# Altium footprint library Connector_Samtec_HLE_SMD.PcbLib: 290 footprints (part 1 of 24)
Each footprint in its own frame and in the unit in brackets; x right, y up, seen from the top. Pads: shape width x height; smd on the part's side, far side on the other; paste and mask are expansions set on the pad; w line width, h text height; cw(c..) or ccw(c..) is an arc to the next point about the centre after c.
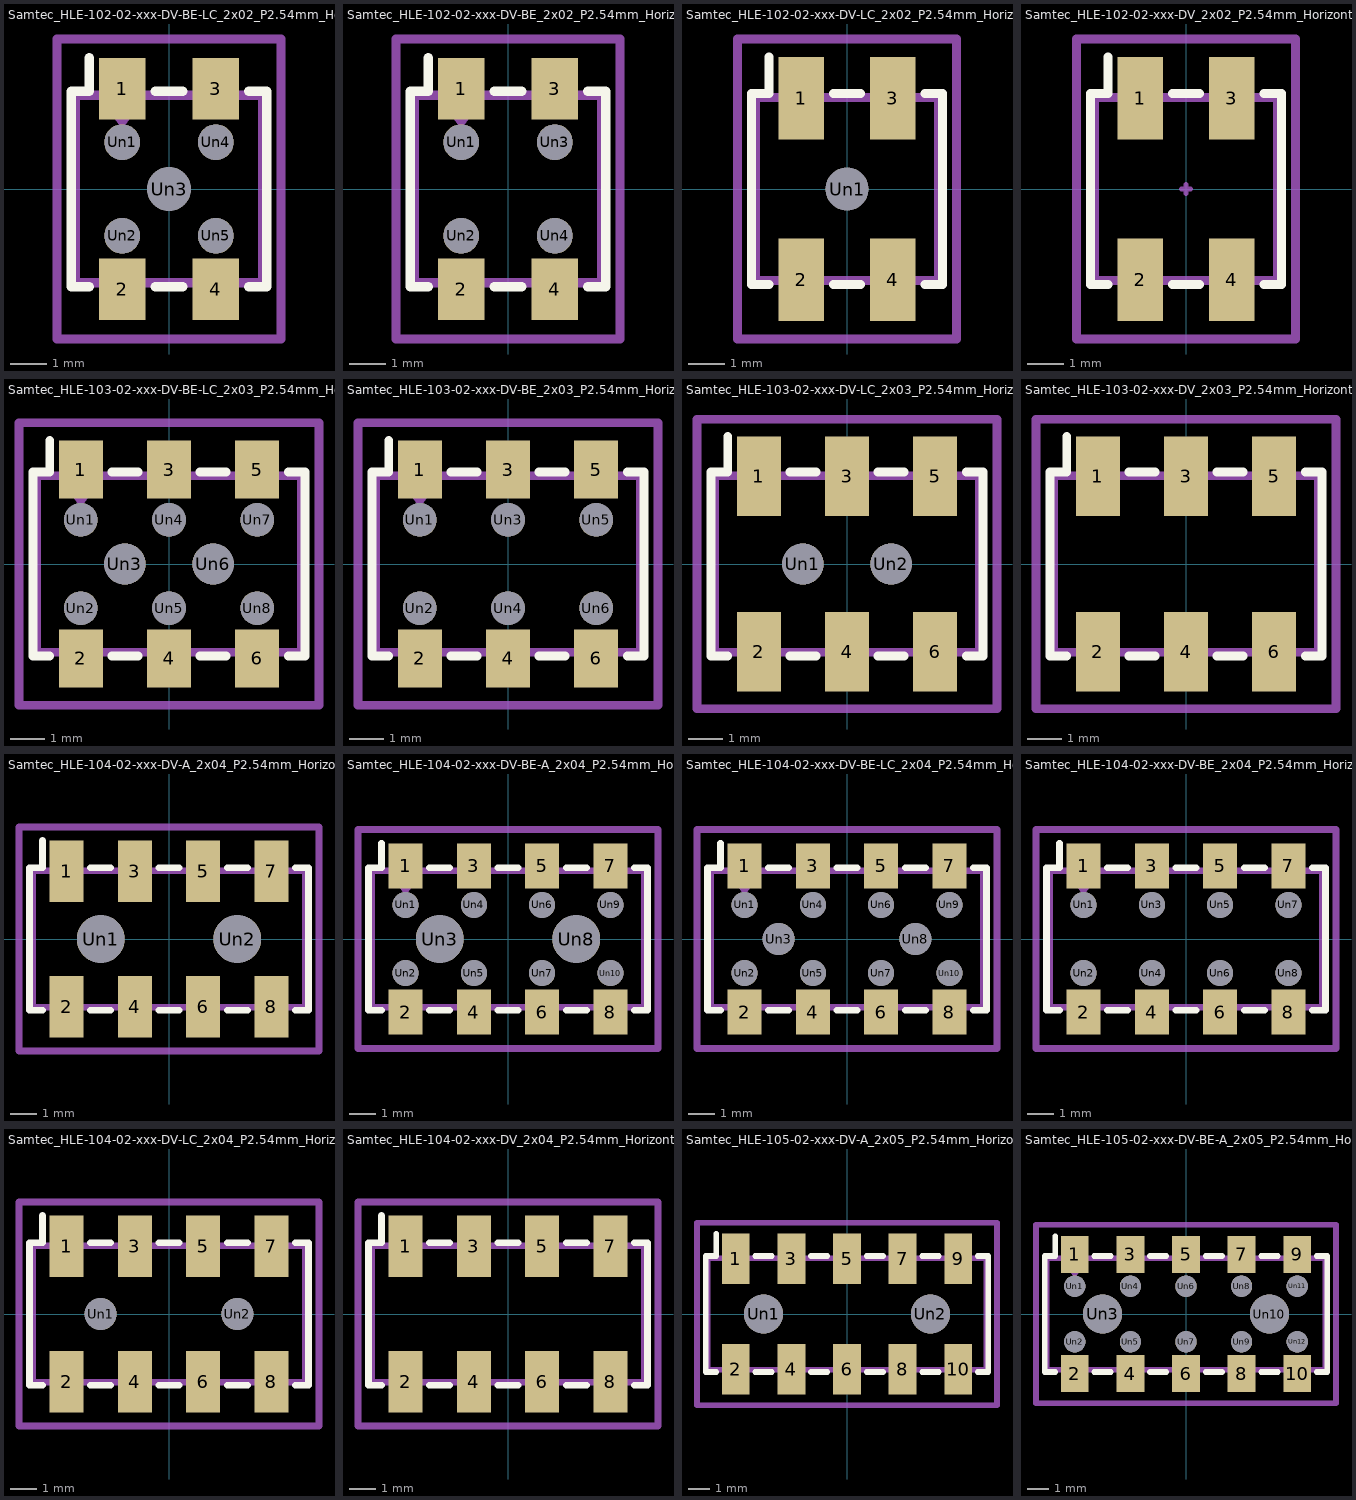
[diagram p0: the footprints below, top view; thin cyan lines are the x and y axes]

## Samtec_HLE-102-02-xxx-DV-BE-LC_2x02_P2.54mm_Horizontal [mm]
pads (9):
  rect 1.27x1.68 smd: 1(-1.27,2.72) 2(-1.27,-2.72) 3(1.27,2.72) 4(1.27,-2.72)
  round 0.97 hole 0.97: Un1(-1.27,1.27) Un2(-1.27,-1.27) Un4(1.27,1.27) Un5(1.27,-1.27)
  round 1.19 hole 1.19: Un3(0,0)
F.SilkS:
  lines w0.254: -2.165,-2.65 -2.65,-2.65 -2.65,2.65 -2.165,2.65 -2.165,3.56 ; -0.375,-2.65 0.375,-2.65 ; -0.375,2.65 0.375,2.65 ; 2.165,-2.65 2.65,-2.65 2.65,2.65 2.165,2.65
Top Assembly:
  lines w0.254: -1.77,2.54 -1.27,1.833 -0.77,2.54 ; -2.54,-2.54 2.54,-2.54 2.54,2.54 -2.54,2.54 -2.54,-2.54
  text "'.Designator'" at -4.047,-2.68 h1
Top Courtyard:
  lines w0.254: -3.04,-4.07 3.04,-4.07 3.04,4.07 -3.04,4.07 -3.04,-4.07
Top Designator:
  text ".Designator" at -7.768,-0.508 h1.52

## Samtec_HLE-102-02-xxx-DV-BE_2x02_P2.54mm_Horizontal [mm]
pads (8):
  rect 1.27x1.68 smd: 1(-1.27,2.72) 2(-1.27,-2.72) 3(1.27,2.72) 4(1.27,-2.72)
  round 0.97 hole 0.97: Un1(-1.27,1.27) Un2(-1.27,-1.27) Un3(1.27,1.27) Un4(1.27,-1.27)
F.SilkS:
  lines w0.254: -2.165,-2.65 -2.65,-2.65 -2.65,2.65 -2.165,2.65 -2.165,3.56 ; -0.375,-2.65 0.375,-2.65 ; -0.375,2.65 0.375,2.65 ; 2.165,-2.65 2.65,-2.65 2.65,2.65 2.165,2.65
Top Assembly:
  lines w0.254: -1.77,2.54 -1.27,1.833 -0.77,2.54 ; -2.54,-2.54 2.54,-2.54 2.54,2.54 -2.54,2.54 -2.54,-2.54
  text "'.Designator'" at -4.047,-2.68 h1
Top Courtyard:
  lines w0.254: -3.04,-4.07 3.04,-4.07 3.04,4.07 -3.04,4.07 -3.04,-4.07
Top Designator:
  text ".Designator" at -7.768,-0.508 h1.52

## Samtec_HLE-102-02-xxx-DV-LC_2x02_P2.54mm_Horizontal [mm]
pads (5):
  rect 1.27x2.29 smd: 1(-1.27,2.525) 2(-1.27,-2.525) 3(1.27,2.525) 4(1.27,-2.525)
  round 1.19 hole 1.19: Un1(0,0)
F.SilkS:
  lines w0.254: -2.165,-2.65 -2.65,-2.65 -2.65,2.65 -2.165,2.65 -2.165,3.67 ; -0.375,-2.65 0.375,-2.65 ; -0.375,2.65 0.375,2.65 ; 2.165,-2.65 2.65,-2.65 2.65,2.65 2.165,2.65
Top Assembly:
  lines w0.254: -1.77,2.54 -1.27,1.833 -0.77,2.54 ; -2.54,-2.54 2.54,-2.54 2.54,2.54 -2.54,2.54 -2.54,-2.54
  text "'.Designator'" at -4.047,-2.68 h1
Top Courtyard:
  lines w0.254: -3.04,-4.17 3.04,-4.17 3.04,4.17 -3.04,4.17 -3.04,-4.17
Top Designator:
  text ".Designator" at -7.768,-0.508 h1.52

## Samtec_HLE-102-02-xxx-DV_2x02_P2.54mm_Horizontal [mm]
pads (4):
  rect 1.27x2.29 smd: 1(-1.27,2.525) 2(-1.27,-2.525) 3(1.27,2.525) 4(1.27,-2.525)
F.SilkS:
  lines w0.254: -2.165,-2.65 -2.65,-2.65 -2.65,2.65 -2.165,2.65 -2.165,3.67 ; -0.375,-2.65 0.375,-2.65 ; -0.375,2.65 0.375,2.65 ; 2.165,-2.65 2.65,-2.65 2.65,2.65 2.165,2.65
Top Component Center:
  lines w0.127: -0.127,0 0.127,0 ; 0,-0.127 0,0.127
Top Assembly:
  lines w0.254: -1.77,2.54 -1.27,1.833 -0.77,2.54 ; -2.54,-2.54 2.54,-2.54 2.54,2.54 -2.54,2.54 -2.54,-2.54
  text "'.Designator'" at -4.047,-2.68 h1
Top Courtyard:
  lines w0.254: -3.04,-4.17 3.04,-4.17 3.04,4.17 -3.04,4.17 -3.04,-4.17
Top Designator:
  text ".Designator" at -7.768,-0.508 h1.52

## Samtec_HLE-103-02-xxx-DV-BE-LC_2x03_P2.54mm_Horizontal [mm]
pads (14):
  rect 1.27x1.68 smd: 1(-2.54,2.72) 2(-2.54,-2.72) 3(0,2.72) 4(0,-2.72) 5(2.54,2.72) 6(2.54,-2.72)
  round 0.97 hole 0.97: Un1(-2.54,1.27) Un2(-2.54,-1.27) Un4(0,1.27) Un5(0,-1.27) Un7(2.54,1.27) Un8(2.54,-1.27)
  round 1.19 hole 1.19: Un3(-1.27,0) Un6(1.27,0)
F.SilkS:
  lines w0.254: -3.435,-2.65 -3.92,-2.65 -3.92,2.65 -3.435,2.65 -3.435,3.56 ; -1.645,-2.65 -0.895,-2.65 ; -1.645,2.65 -0.895,2.65 ; 0.895,-2.65 1.645,-2.65 ; 0.895,2.65 1.645,2.65 ; 3.435,-2.65 3.92,-2.65 3.92,2.65 3.435,2.65
Top Assembly:
  lines w0.254: -3.04,2.54 -2.54,1.833 -2.04,2.54 ; -3.81,-2.54 3.81,-2.54 3.81,2.54 -3.81,2.54 -3.81,-2.54
  text "'.Designator'" at -4.047,-2.68 h1
Top Courtyard:
  lines w0.254: -4.32,-4.07 4.32,-4.07 4.32,4.07 -4.32,4.07 -4.32,-4.07
Top Designator:
  text ".Designator" at -7.618,-0.508 h1.52

## Samtec_HLE-103-02-xxx-DV-BE_2x03_P2.54mm_Horizontal [mm]
pads (12):
  rect 1.27x1.68 smd: 1(-2.54,2.72) 2(-2.54,-2.72) 3(0,2.72) 4(0,-2.72) 5(2.54,2.72) 6(2.54,-2.72)
  round 0.97 hole 0.97: Un1(-2.54,1.27) Un2(-2.54,-1.27) Un3(0,1.27) Un4(0,-1.27) Un5(2.54,1.27) Un6(2.54,-1.27)
F.SilkS:
  lines w0.254: -3.435,-2.65 -3.92,-2.65 -3.92,2.65 -3.435,2.65 -3.435,3.56 ; -1.645,-2.65 -0.895,-2.65 ; -1.645,2.65 -0.895,2.65 ; 0.895,-2.65 1.645,-2.65 ; 0.895,2.65 1.645,2.65 ; 3.435,-2.65 3.92,-2.65 3.92,2.65 3.435,2.65
Top Assembly:
  lines w0.254: -3.04,2.54 -2.54,1.833 -2.04,2.54 ; -3.81,-2.54 3.81,-2.54 3.81,2.54 -3.81,2.54 -3.81,-2.54
  text "'.Designator'" at -4.047,-2.68 h1
Top Courtyard:
  lines w0.254: -4.32,-4.07 4.32,-4.07 4.32,4.07 -4.32,4.07 -4.32,-4.07
Top Designator:
  text ".Designator" at -7.618,-0.508 h1.52

## Samtec_HLE-103-02-xxx-DV-LC_2x03_P2.54mm_Horizontal [mm]
pads (8):
  rect 1.27x2.29 smd: 1(-2.54,2.525) 2(-2.54,-2.525) 3(0,2.525) 4(0,-2.525) 5(2.54,2.525) 6(2.54,-2.525)
  round 1.19 hole 1.19: Un1(-1.27,0) Un2(1.27,0)
F.SilkS:
  lines w0.254: -3.435,-2.65 -3.92,-2.65 -3.92,2.65 -3.435,2.65 -3.435,3.67 ; -1.645,-2.65 -0.895,-2.65 ; -1.645,2.65 -0.895,2.65 ; 0.895,-2.65 1.645,-2.65 ; 0.895,2.65 1.645,2.65 ; 3.435,-2.65 3.92,-2.65 3.92,2.65 3.435,2.65
Top Assembly:
  lines w0.254: -3.04,2.54 -2.54,1.833 -2.04,2.54 ; -3.81,-2.54 3.81,-2.54 3.81,2.54 -3.81,2.54 -3.81,-2.54
  text "'.Designator'" at -4.047,-2.68 h1
Top Courtyard:
  lines w0.254: -4.32,-4.17 4.32,-4.17 4.32,4.17 -4.32,4.17 -4.32,-4.17
Top Designator:
  text ".Designator" at -7.618,-0.508 h1.52

## Samtec_HLE-103-02-xxx-DV_2x03_P2.54mm_Horizontal [mm]
pads (6):
  rect 1.27x2.29 smd: 1(-2.54,2.525) 2(-2.54,-2.525) 3(0,2.525) 4(0,-2.525) 5(2.54,2.525) 6(2.54,-2.525)
F.SilkS:
  lines w0.254: -3.435,-2.65 -3.92,-2.65 -3.92,2.65 -3.435,2.65 -3.435,3.67 ; -1.645,-2.65 -0.895,-2.65 ; -1.645,2.65 -0.895,2.65 ; 0.895,-2.65 1.645,-2.65 ; 0.895,2.65 1.645,2.65 ; 3.435,-2.65 3.92,-2.65 3.92,2.65 3.435,2.65
Top Assembly:
  lines w0.254: -3.04,2.54 -2.54,1.833 -2.04,2.54 ; -3.81,-2.54 3.81,-2.54 3.81,2.54 -3.81,2.54 -3.81,-2.54
  text "'.Designator'" at -4.047,-2.68 h1
Top Courtyard:
  lines w0.254: -4.32,-4.17 4.32,-4.17 4.32,4.17 -4.32,4.17 -4.32,-4.17
Top Designator:
  text ".Designator" at -7.618,-0.508 h1.52

## Samtec_HLE-104-02-xxx-DV-A_2x04_P2.54mm_Horizontal [mm]
pads (10):
  rect 1.27x2.29 smd: 1(-3.81,2.525) 2(-3.81,-2.525) 3(-1.27,2.525) 4(-1.27,-2.525) 5(1.27,2.525) 6(1.27,-2.525) 7(3.81,2.525) 8(3.81,-2.525)
  round 1.78 hole 1.78: Un1(-2.54,0) Un2(2.54,0)
F.SilkS:
  lines w0.254: -4.705,-2.65 -5.19,-2.65 -5.19,2.65 -4.705,2.65 -4.705,3.67 ; -2.915,-2.65 -2.165,-2.65 ; -2.915,2.65 -2.165,2.65 ; -0.375,-2.65 0.375,-2.65 ; -0.375,2.65 0.375,2.65 ; 2.165,-2.65 2.915,-2.65 ; 2.165,2.65 2.915,2.65 ; 4.705,-2.65 5.19,-2.65 5.19,2.65 4.705,2.65
Top Assembly:
  lines w0.254: -4.31,2.54 -3.81,1.833 -3.31,2.54 ; -5.08,-2.54 5.08,-2.54 5.08,2.54 -5.08,2.54 -5.08,-2.54
  text "'.Designator'" at -4.047,-2.68 h1
Top Courtyard:
  lines w0.254: -5.58,-4.17 5.58,-4.17 5.58,4.17 -5.58,4.17 -5.58,-4.17
Top Designator:
  text ".Designator" at -7.618,-0.508 h1.52

## Samtec_HLE-104-02-xxx-DV-BE-A_2x04_P2.54mm_Horizontal [mm]
pads (18):
  rect 1.27x1.68 smd: 1(-3.81,2.72) 2(-3.81,-2.72) 3(-1.27,2.72) 4(-1.27,-2.72) 5(1.27,2.72) 6(1.27,-2.72) 7(3.81,2.72) 8(3.81,-2.72)
  round 0.97 hole 0.97: Un1(-3.81,1.27) Un2(-3.81,-1.27) Un4(-1.27,1.27) Un5(-1.27,-1.27) Un6(1.27,1.27) Un7(1.27,-1.27) Un9(3.81,1.27) Un10(3.81,-1.27)
  round 1.78 hole 1.78: Un3(-2.54,0) Un8(2.54,0)
F.SilkS:
  lines w0.254: -4.705,-2.65 -5.19,-2.65 -5.19,2.65 -4.705,2.65 -4.705,3.56 ; -2.915,-2.65 -2.165,-2.65 ; -2.915,2.65 -2.165,2.65 ; -0.375,-2.65 0.375,-2.65 ; -0.375,2.65 0.375,2.65 ; 2.165,-2.65 2.915,-2.65 ; 2.165,2.65 2.915,2.65 ; 4.705,-2.65 5.19,-2.65 5.19,2.65 4.705,2.65
Top Assembly:
  lines w0.254: -4.31,2.54 -3.81,1.833 -3.31,2.54 ; -5.08,-2.54 5.08,-2.54 5.08,2.54 -5.08,2.54 -5.08,-2.54
  text "'.Designator'" at -4.047,-2.68 h1
Top Courtyard:
  lines w0.254: -5.58,-4.07 5.58,-4.07 5.58,4.07 -5.58,4.07 -5.58,-4.07
Top Designator:
  text ".Designator" at -7.618,-0.508 h1.52

## Samtec_HLE-104-02-xxx-DV-BE-LC_2x04_P2.54mm_Horizontal [mm]
pads (18):
  rect 1.27x1.68 smd: 1(-3.81,2.72) 2(-3.81,-2.72) 3(-1.27,2.72) 4(-1.27,-2.72) 5(1.27,2.72) 6(1.27,-2.72) 7(3.81,2.72) 8(3.81,-2.72)
  round 0.97 hole 0.97: Un1(-3.81,1.27) Un2(-3.81,-1.27) Un4(-1.27,1.27) Un5(-1.27,-1.27) Un6(1.27,1.27) Un7(1.27,-1.27) Un9(3.81,1.27) Un10(3.81,-1.27)
  round 1.19 hole 1.19: Un3(-2.54,0) Un8(2.54,0)
F.SilkS:
  lines w0.254: -4.705,-2.65 -5.19,-2.65 -5.19,2.65 -4.705,2.65 -4.705,3.56 ; -2.915,-2.65 -2.165,-2.65 ; -2.915,2.65 -2.165,2.65 ; -0.375,-2.65 0.375,-2.65 ; -0.375,2.65 0.375,2.65 ; 2.165,-2.65 2.915,-2.65 ; 2.165,2.65 2.915,2.65 ; 4.705,-2.65 5.19,-2.65 5.19,2.65 4.705,2.65
Top Assembly:
  lines w0.254: -4.31,2.54 -3.81,1.833 -3.31,2.54 ; -5.08,-2.54 5.08,-2.54 5.08,2.54 -5.08,2.54 -5.08,-2.54
  text "'.Designator'" at -4.047,-2.68 h1
Top Courtyard:
  lines w0.254: -5.58,-4.07 5.58,-4.07 5.58,4.07 -5.58,4.07 -5.58,-4.07
Top Designator:
  text ".Designator" at -7.618,-0.508 h1.52

## Samtec_HLE-104-02-xxx-DV-BE_2x04_P2.54mm_Horizontal [mm]
pads (16):
  rect 1.27x1.68 smd: 1(-3.81,2.72) 2(-3.81,-2.72) 3(-1.27,2.72) 4(-1.27,-2.72) 5(1.27,2.72) 6(1.27,-2.72) 7(3.81,2.72) 8(3.81,-2.72)
  round 0.97 hole 0.97: Un1(-3.81,1.27) Un2(-3.81,-1.27) Un3(-1.27,1.27) Un4(-1.27,-1.27) Un5(1.27,1.27) Un6(1.27,-1.27) Un7(3.81,1.27) Un8(3.81,-1.27)
F.SilkS:
  lines w0.254: -4.705,-2.65 -5.19,-2.65 -5.19,2.65 -4.705,2.65 -4.705,3.56 ; -2.915,-2.65 -2.165,-2.65 ; -2.915,2.65 -2.165,2.65 ; -0.375,-2.65 0.375,-2.65 ; -0.375,2.65 0.375,2.65 ; 2.165,-2.65 2.915,-2.65 ; 2.165,2.65 2.915,2.65 ; 4.705,-2.65 5.19,-2.65 5.19,2.65 4.705,2.65
Top Assembly:
  lines w0.254: -4.31,2.54 -3.81,1.833 -3.31,2.54 ; -5.08,-2.54 5.08,-2.54 5.08,2.54 -5.08,2.54 -5.08,-2.54
  text "'.Designator'" at -4.047,-2.68 h1
Top Courtyard:
  lines w0.254: -5.58,-4.07 5.58,-4.07 5.58,4.07 -5.58,4.07 -5.58,-4.07
Top Designator:
  text ".Designator" at -7.618,-0.508 h1.52

## Samtec_HLE-104-02-xxx-DV-LC_2x04_P2.54mm_Horizontal [mm]
pads (10):
  rect 1.27x2.29 smd: 1(-3.81,2.525) 2(-3.81,-2.525) 3(-1.27,2.525) 4(-1.27,-2.525) 5(1.27,2.525) 6(1.27,-2.525) 7(3.81,2.525) 8(3.81,-2.525)
  round 1.19 hole 1.19: Un1(-2.54,0) Un2(2.54,0)
F.SilkS:
  lines w0.254: -4.705,-2.65 -5.19,-2.65 -5.19,2.65 -4.705,2.65 -4.705,3.67 ; -2.915,-2.65 -2.165,-2.65 ; -2.915,2.65 -2.165,2.65 ; -0.375,-2.65 0.375,-2.65 ; -0.375,2.65 0.375,2.65 ; 2.165,-2.65 2.915,-2.65 ; 2.165,2.65 2.915,2.65 ; 4.705,-2.65 5.19,-2.65 5.19,2.65 4.705,2.65
Top Assembly:
  lines w0.254: -4.31,2.54 -3.81,1.833 -3.31,2.54 ; -5.08,-2.54 5.08,-2.54 5.08,2.54 -5.08,2.54 -5.08,-2.54
  text "'.Designator'" at -4.047,-2.68 h1
Top Courtyard:
  lines w0.254: -5.58,-4.17 5.58,-4.17 5.58,4.17 -5.58,4.17 -5.58,-4.17
Top Designator:
  text ".Designator" at -7.618,-0.508 h1.52

## Samtec_HLE-104-02-xxx-DV_2x04_P2.54mm_Horizontal [mm]
pads (8):
  rect 1.27x2.29 smd: 1(-3.81,2.525) 2(-3.81,-2.525) 3(-1.27,2.525) 4(-1.27,-2.525) 5(1.27,2.525) 6(1.27,-2.525) 7(3.81,2.525) 8(3.81,-2.525)
F.SilkS:
  lines w0.254: -4.705,-2.65 -5.19,-2.65 -5.19,2.65 -4.705,2.65 -4.705,3.67 ; -2.915,-2.65 -2.165,-2.65 ; -2.915,2.65 -2.165,2.65 ; -0.375,-2.65 0.375,-2.65 ; -0.375,2.65 0.375,2.65 ; 2.165,-2.65 2.915,-2.65 ; 2.165,2.65 2.915,2.65 ; 4.705,-2.65 5.19,-2.65 5.19,2.65 4.705,2.65
Top Assembly:
  lines w0.254: -4.31,2.54 -3.81,1.833 -3.31,2.54 ; -5.08,-2.54 5.08,-2.54 5.08,2.54 -5.08,2.54 -5.08,-2.54
  text "'.Designator'" at -4.047,-2.68 h1
Top Courtyard:
  lines w0.254: -5.58,-4.17 5.58,-4.17 5.58,4.17 -5.58,4.17 -5.58,-4.17
Top Designator:
  text ".Designator" at -7.618,-0.508 h1.52

## Samtec_HLE-105-02-xxx-DV-A_2x05_P2.54mm_Horizontal [mm]
pads (12):
  rect 1.27x2.29 smd: 1(-5.08,2.525) 2(-5.08,-2.525) 3(-2.54,2.525) 4(-2.54,-2.525) 5(0,2.525) 6(0,-2.525) 7(2.54,2.525) 8(2.54,-2.525) 9(5.08,2.525) 10(5.08,-2.525)
  round 1.78 hole 1.78: Un1(-3.81,0) Un2(3.81,0)
F.SilkS:
  lines w0.254: -5.975,-2.65 -6.46,-2.65 -6.46,2.65 -5.975,2.65 -5.975,3.67 ; -4.185,-2.65 -3.435,-2.65 ; -4.185,2.65 -3.435,2.65 ; -1.645,-2.65 -0.895,-2.65 ; -1.645,2.65 -0.895,2.65 ; 0.895,-2.65 1.645,-2.65 ; 0.895,2.65 1.645,2.65 ; 3.435,-2.65 4.185,-2.65 ; 3.435,2.65 4.185,2.65 ; 5.975,-2.65 6.46,-2.65 6.46,2.65 5.975,2.65
Top Assembly:
  lines w0.254: -5.58,2.54 -5.08,1.833 -4.58,2.54 ; -6.35,-2.54 6.35,-2.54 6.35,2.54 -6.35,2.54 -6.35,-2.54
  text "'.Designator'" at -4.047,-2.68 h1
Top Courtyard:
  lines w0.254: -6.85,-4.17 6.85,-4.17 6.85,4.17 -6.85,4.17 -6.85,-4.17
Top Designator:
  text ".Designator" at -7.618,-0.508 h1.52

## Samtec_HLE-105-02-xxx-DV-BE-A_2x05_P2.54mm_Horizontal [mm]
pads (22):
  rect 1.27x1.68 smd: 1(-5.08,2.72) 2(-5.08,-2.72) 3(-2.54,2.72) 4(-2.54,-2.72) 5(0,2.72) 6(0,-2.72) 7(2.54,2.72) 8(2.54,-2.72) 9(5.08,2.72) 10(5.08,-2.72)
  round 0.97 hole 0.97: Un1(-5.08,1.27) Un2(-5.08,-1.27) Un4(-2.54,1.27) Un5(-2.54,-1.27) Un6(0,1.27) Un7(0,-1.27) Un8(2.54,1.27) Un9(2.54,-1.27) Un11(5.08,1.27) Un12(5.08,-1.27)
  round 1.78 hole 1.78: Un3(-3.81,0) Un10(3.81,0)
F.SilkS:
  lines w0.254: -5.975,-2.65 -6.46,-2.65 -6.46,2.65 -5.975,2.65 -5.975,3.56 ; -4.185,-2.65 -3.435,-2.65 ; -4.185,2.65 -3.435,2.65 ; -1.645,-2.65 -0.895,-2.65 ; -1.645,2.65 -0.895,2.65 ; 0.895,-2.65 1.645,-2.65 ; 0.895,2.65 1.645,2.65 ; 3.435,-2.65 4.185,-2.65 ; 3.435,2.65 4.185,2.65 ; 5.975,-2.65 6.46,-2.65 6.46,2.65 5.975,2.65
Top Assembly:
  lines w0.254: -5.58,2.54 -5.08,1.833 -4.58,2.54 ; -6.35,-2.54 6.35,-2.54 6.35,2.54 -6.35,2.54 -6.35,-2.54
  text "'.Designator'" at -4.047,-2.68 h1
Top Courtyard:
  lines w0.254: -6.85,-4.07 6.85,-4.07 6.85,4.07 -6.85,4.07 -6.85,-4.07
Top Designator:
  text ".Designator" at -7.618,-0.508 h1.52